# Altium footprint library PCB - LEADLESS - SON - TI USON-6 DRY.PcbLib: 1 footprints
Each footprint in its own frame and in the unit in brackets; x right, y up, seen from the top. Pads: shape width x height; smd on the part's side, far side on the other; paste and mask are expansions set on the pad; w line width, h text height; cw(c..) or ccw(c..) is an arc to the next point about the centre after c.
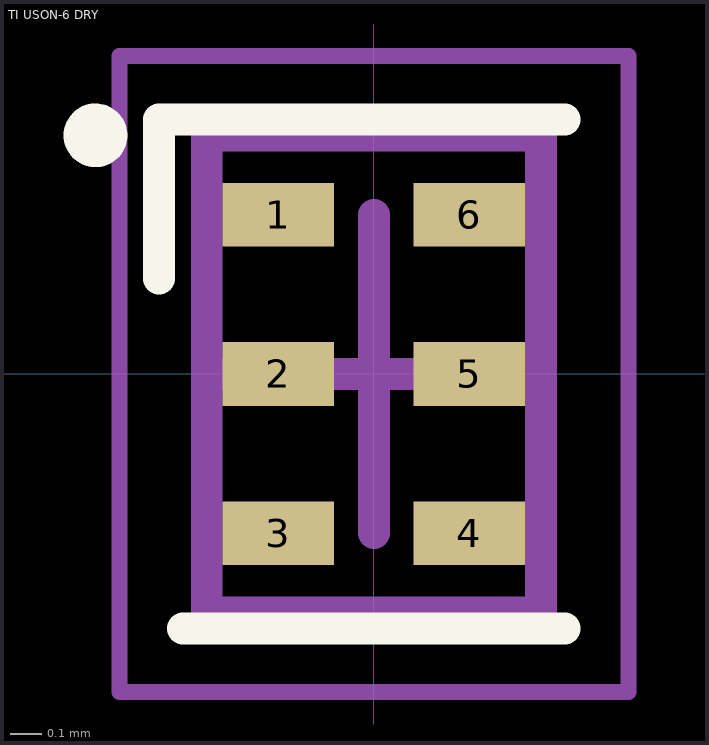
[diagram p0: the footprint, top view; thin cyan lines are the x and y axes]

## TI USON-6 DRY [mm] "SON, 6-Leads, Body 1.45x1.00mm, Pitch 0.50mm, IPC Medium Density"
height 0.6
pads (6):
  rect 0.35x0.2 smd: 1(-0.3,0.5) 2(-0.3,0) 3(-0.3,-0.5) 4(0.3,-0.5) 5(0.3,0) 6(0.3,0.5)
Top Overlay:
  circle w0.1: c-0.875,0.75 r0.05
  lines w0.1: -0.675,0.3 -0.675,0.8 0.6,0.8 ; -0.6,-0.8 0.6,-0.8
Mechanical 13:
  lines w0.1: -0.525,-0.75 -0.525,0.75 0.525,0.75 0.525,-0.75 -0.525,-0.75
Mechanical 15:
  lines w0.05: -0.8,-1 -0.8,1 0.8,1 0.8,-1 -0.8,-1
  lines w0.1: -0.5,0 0.5,0 ; 0,-0.5 0,0.5
3D body "TI USON-6 DRY.step": height 0.6, standoff 0, extent -0.525,-0.75 0.525,0.75